# Altium footprint library PCB_Library.PcbLib: 36 footprints (part 1 of 3)
Each footprint in its own frame and in the unit in brackets; x right, y up, seen from the top. Pads: shape width x height; smd on the part's side, far side on the other; paste and mask are expansions set on the pad; w line width, h text height; cw(c..) or ccw(c..) is an arc to the next point about the centre after c.
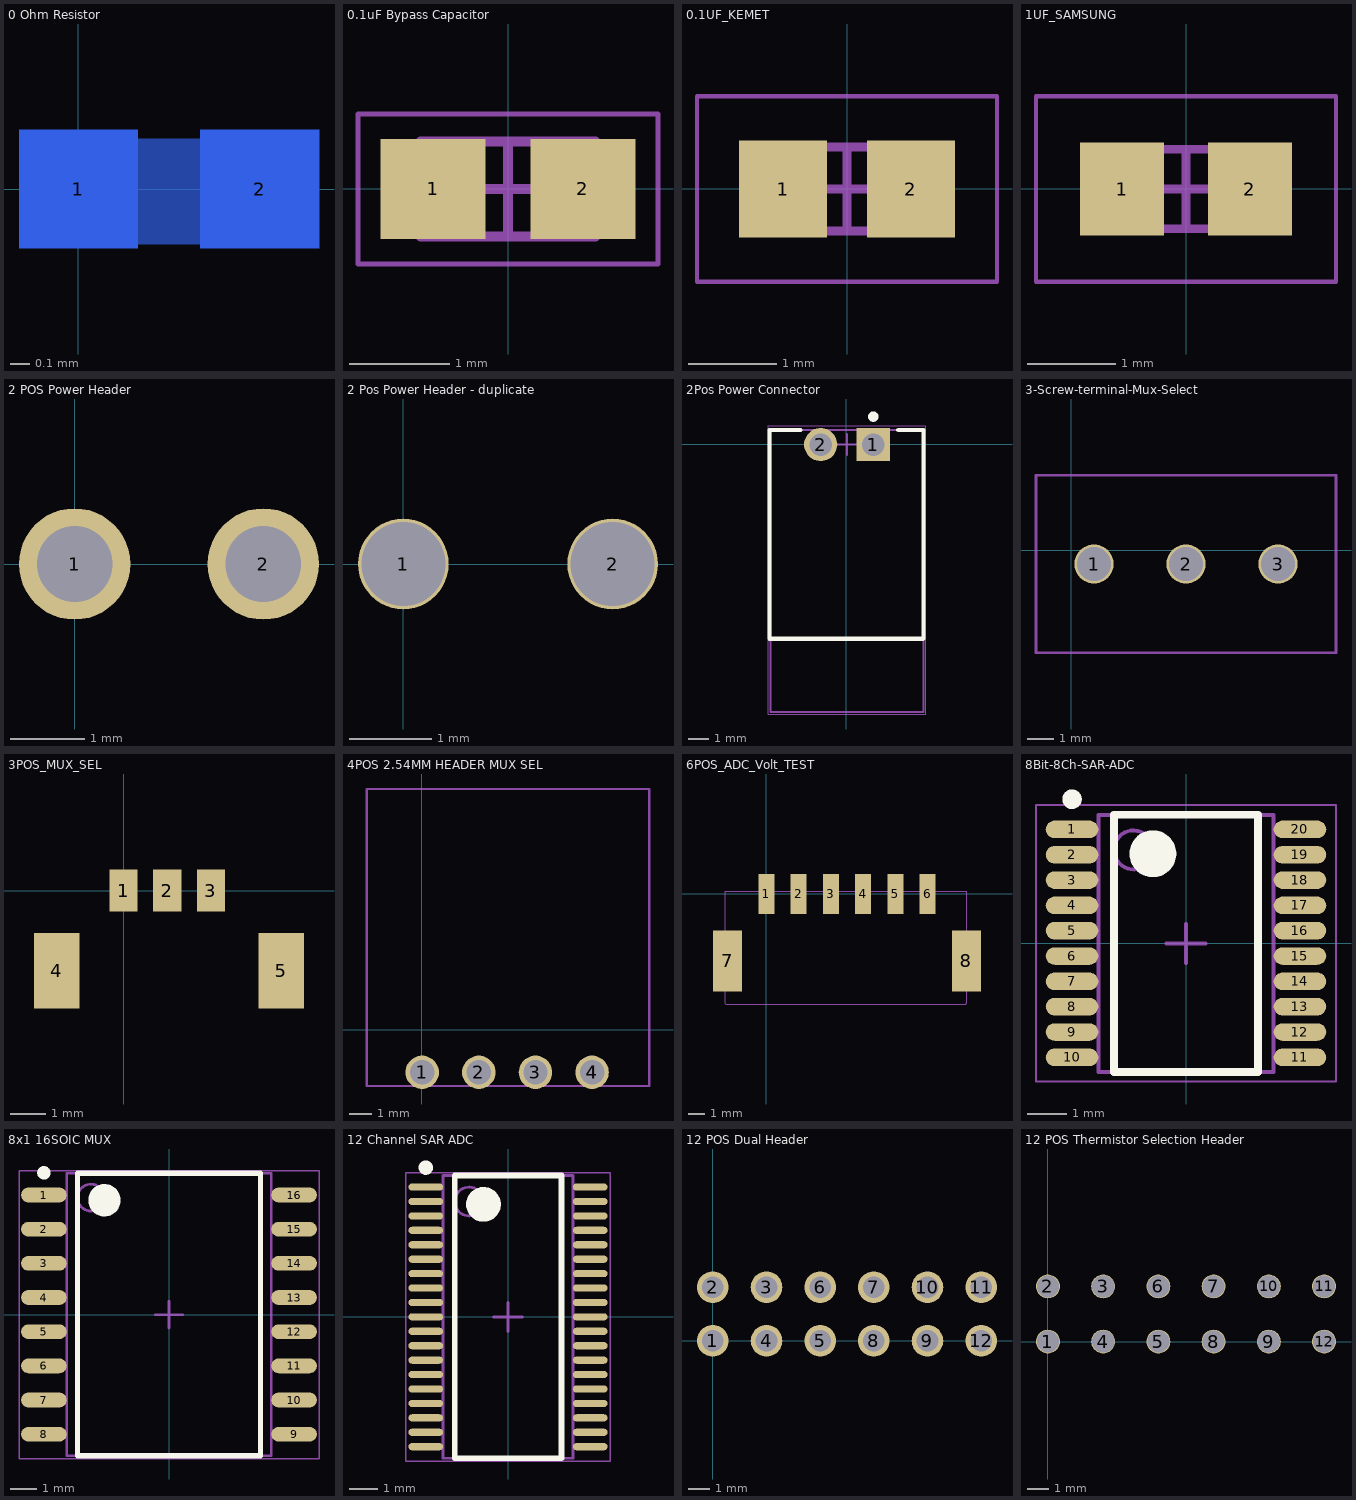
[diagram p0: the footprints below, top view; thin cyan lines are the x and y axes]

## 0 Ohm Resistor [mm]
pads (2):
  rect 0.6x0.6 smd far side: 1(0,0) 2(0.914,0)
Bottom Layer:
  rectangle: 0.254,-0.279 0.66,0.254

## 0.1uF Bypass Capacitor [mm] "Chip Capacitor, 2-Leads, Body 1.60x0.80mm, IPC Medium Density"
height 0.9
pads (2):
  rect 1.05x1 smd: 1(-0.75,0) 2(0.75,0)
Mechanical 13:
  lines w0.1: -0.875,-0.475 -0.875,0.475 0.875,0.475 0.875,-0.475 -0.875,-0.475
Mechanical 15:
  lines w0.05: -1.5,-0.75 -1.5,0.75 1.5,0.75 1.5,-0.75 -1.5,-0.75
  lines w0.1: -0.475,0 0.475,0 ; 0,-0.475 0,0.475
3D body "0.1uF Bypass Capacitor.step": height 0.9, standoff 0, extent -0.875,-0.475 0.875,0.475

## 0.1UF_KEMET [mm]
pads (2):
  rect 1x1.1 smd: 1(-0.725,0) 2(0.725,0)
Mechanical 13:
  lines w0.1: -0.875,-0.475 0.875,-0.475 0.875,0.475 -0.875,0.475 -0.875,-0.475
Mechanical 15:
  lines w0.05: -1.7,-1.05 1.7,-1.05 1.7,1.05 -1.7,1.05 -1.7,-1.05
  lines w0.1: -0.475,0 0.475,0 ; 0,-0.475 0,0.475
3D body "CAPC1608X09M.step": height 0.92, standoff 0, extent -0.875,-0.475 0.875,0.475

## 1UF_SAMSUNG [mm]
pads (2):
  rect 0.95x1.05 smd: 1(-0.725,0) 2(0.725,0)
Mechanical 13:
  lines w0.1: -0.85,-0.45 -0.85,0.45 0.85,0.45 0.85,-0.45 -0.85,-0.45
Mechanical 15:
  lines w0.05: -1.7,-1.05 -1.7,1.05 1.7,1.05 1.7,-1.05 -1.7,-1.05
  lines w0.1: -0.45,0 0.45,0 ; 0,-0.45 0,0.45
3D body "CAPC1608X09M.step": height 0.9, standoff 0, extent -0.85,-0.45 0.85,0.45

## 2 POS Power Header [mm] "Connecting Power between boards"
pads (2):
  round 1.5 hole 1.02: 1(0,0) 2(2.54,0)
3D body "929715-06-01.STEP": height 10.04, standoff -17.99, extent -1.536,-1.295 3.924,1.245

## 2 Pos Power Header - duplicate [mm] "Without 3D body,"
pads (2):
  round 1.1 hole 1.02: 1(0,0) 2(2.54,0)

## 2Pos Power Connector [mm]
pads (2):
  rect 1.6x1.6 hole 1.09: 1(1.295,-0.025)
  round 1.6 hole 1.09: 2(-1.245,-0.025)
Top Overlay:
  circle w0.25: c1.295,1.325 r0.125
  lines w0.2: -2.22,0.675 -3.708,0.675 -3.708,-9.385 3.696,-9.385 3.71,-9.371 3.71,0.675 2.495,0.675
Mechanical 13:
  lines w0.1: -3.66,-12.915 3.71,-12.915 3.71,0.675 -3.66,0.675 -3.66,-12.915
Mechanical 15:
  lines w0.05: -3.76,-13.015 -3.76,0.875 3.81,0.875 3.81,-13.015 -3.76,-13.015
  lines w0.1: -0.475,-0.025 0.525,-0.025 ; 0.025,-0.525 0.025,0.475
3D body "705530001.stp": height 6.98, standoff -3.3, extent -3.658,-12.914 3.708,0.675

## 3-Screw-terminal-Mux-Select [mm]
pads (3):
  round 1.5 hole 1.3: 1(0.864,-0.533) 2(4.369,-0.533) 3(7.874,-0.533)
Mechanical 1:
  lines w0.1: -1.346,-3.912 9.449,-3.912 10.084,-3.912 10.084,-0.533 10.084,2.845 8.915,2.845 -1.346,2.845 -1.346,0.483 -1.346,-0.711 -1.346,-3.912
3D body "691103110003 (rev1).stp": height 8.5, standoff -3.7, extent -1.432,-4.084 10.068,2.916

## 3POS_MUX_SEL [mm] "CONN HEADER SMD R/A 3POS 1.25MM"
pads (5):
  rect 0.8x1.2 smd: 1(0,0) 2(1.245,0) 3(2.489,0)
  rect 1.3x2.15 smd: 4(-1.905,-2.286) 5(4.496,-2.286)
3D body "5055670371.stp": height 3.91, standoff 0.01, extent -2.281,-3.835 4.719,0.365

## 4POS 2.54MM HEADER MUX SEL [mm]
pads (5):
  round 1.5 hole 1.09: 1(0.025,-1.905) 2(2.565,-1.905) 3(5.105,-1.905) 4(7.645,-1.905) 4(7.645,-1.905)
Mechanical 1:
  lines w0.1: -2.464,-2.515 -2.464,-1.905 -2.464,10.795 10.211,10.795 10.211,-1.905 10.211,-2.515 -2.464,-2.515
3D body "705530108.stp": height 7.06, standoff -3.22, extent -2.515,-2.642 10.185,10.947

## 6POS_ADC_Volt_TEST [mm] "CONN HEADER SMD R/A 6POS 2MM"
pads (8):
  rect 1x2.5 smd: 1(0,0) 2(2.007,0) 3(4.013,0) 4(6.02,0) 5(8.026,0) 6(10.033,0)
  rect 1.8x3.8 smd: 7(-2.413,-4.166) 8(12.446,-4.166)
Mechanical 1:
  lines w0.012: -2.565,-6.807 -2.565,0.152 -2.489,0.152 12.471,0.152 12.471,-6.782 12.395,-6.858 -2.515,-6.858 -2.565,-6.807

## 8Bit-8Ch-SAR-ADC [mm]
height 1.25
pads (20):
  oval 1.35x0.45 smd: 1(-2.925,2.925) 2(-2.925,2.275) 3(-2.925,1.625) 4(-2.925,0.975) 5(-2.925,0.325) 6(-2.925,-0.325) 7(-2.925,-0.975) 8(-2.925,-1.625) 9(-2.925,-2.275) 10(-2.925,-2.925) 11(2.925,-2.925) 12(2.925,-2.275) 13(2.925,-1.625) 14(2.925,-0.975) 15(2.925,-0.325) 16(2.925,0.325) 17(2.925,0.975) 18(2.925,1.625) 19(2.925,2.275) 20(2.925,2.925)
Top Overlay:
  circle w0.6: c-0.85,2.3 r0.3
  circle w0.25: c-2.925,3.7 r0.125
  lines w0.2: -1.85,-3.3 1.85,-3.3 1.85,3.3 -1.85,3.3 -1.85,-3.3
Mechanical 13:
  circle w0.1: c-1.35,2.4 r0.5
  lines w0.1: -2.25,-3.3 2.25,-3.3 2.25,3.3 -2.25,3.3 -2.25,-3.3
Mechanical 15:
  lines w0.05: -3.85,-3.55 3.85,-3.55 3.85,3.55 -3.85,3.55 -3.85,-3.55
  lines w0.1: -0.5,0 0.5,0 ; 0,-0.5 0,0.5
3D body "8Bit-8Ch-SAR-ADC.step": height 1.25, standoff 0, extent -3.2,-3.3 3.2,3.3

## 8x1 16SOIC MUX [mm] "IC MUX/DEMUX 8X1 16SOIC"
height 2.65
pads (16):
  oval 1.7x0.55 smd: 1(-4.65,4.445) 2(-4.65,3.175) 3(-4.65,1.905) 4(-4.65,0.635) 5(-4.65,-0.635) 6(-4.65,-1.905) 7(-4.65,-3.175) 8(-4.65,-4.445) 9(4.65,-4.445) 10(4.65,-3.175) 11(4.65,-1.905) 12(4.65,-0.635) 13(4.65,0.635) 14(4.65,1.905) 15(4.65,3.175) 16(4.65,4.445)
Top Overlay:
  circle w0.25: c-4.65,5.27 r0.125
  circle w0.6: c-2.4,4.25 r0.3
  lines w0.2: -3.4,-5.25 -3.4,5.25 3.4,5.25 3.4,-5.25 -3.4,-5.25
Mechanical 13:
  circle w0.1: c-2.9,4.35 r0.5
  lines w0.1: -3.8,-5.25 -3.8,5.25 3.8,5.25 3.8,-5.25 -3.8,-5.25
Mechanical 15:
  lines w0.05: -5.575,-5.35 -5.575,5.35 5.575,5.35 5.575,-5.35 -5.575,-5.35
  lines w0.1: -0.5,0 0.5,0 ; 0,-0.5 0,0.5
3D body "8x1 16SOIC MUX .step": height 2.65, standoff 0, extent -5.15,-5.25 5.15,5.25

## 12 Channel SAR ADC [mm] "TSSOP, 38-Leads, Body 9.70x4.40mm, Pitch 0.50mm, IPC High Density"
height 1.2
pads (38):
  oval 1.2x0.25 smd: 1(-2.85,4.5) 2(-2.85,4) 3(-2.85,3.5) 4(-2.85,3) 5(-2.85,2.5) 6(-2.85,2) 7(-2.85,1.5) 8(-2.85,1) 9(-2.85,0.5) 10(-2.85,0) 11(-2.85,-0.5) 12(-2.85,-1) 13(-2.85,-1.5) 14(-2.85,-2) 15(-2.85,-2.5) 16(-2.85,-3) 17(-2.85,-3.5) 18(-2.85,-4) 19(-2.85,-4.5) 20(2.85,-4.5) 21(2.85,-4) 22(2.85,-3.5) 23(2.85,-3) 24(2.85,-2.5) 25(2.85,-2) 26(2.85,-1.5) 27(2.85,-1) 28(2.85,-0.5) 29(2.85,0) 30(2.85,0.5) 31(2.85,1) 32(2.85,1.5) 33(2.85,2) 34(2.85,2.5) 35(2.85,3) 36(2.85,3.5) 37(2.85,4) 38(2.85,4.5)
Top Overlay:
  circle w0.25: c-2.85,5.175 r0.125
  circle w0.6: c-0.85,3.9 r0.3
  lines w0.2: -1.85,-4.9 -1.85,4.9 1.85,4.9 1.85,-4.9 -1.85,-4.9
Mechanical 13:
  circle w0.1: c-1.35,4 r0.5
  lines w0.1: -2.25,-4.9 -2.25,4.9 2.25,4.9 2.25,-4.9 -2.25,-4.9
Mechanical 15:
  lines w0.05: -3.55,-5 -3.55,5 3.55,5 3.55,-5 -3.55,-5
  lines w0.1: -0.5,0 0.5,0 ; 0,-0.5 0,0.5
3D body "12 Channel SAR ADC.step": height 1.2, standoff 0, extent -3.2,-4.9 3.2,4.9

## 12 POS Dual Header [mm] "Board to Board ADC Channel Header"
pads (12):
  round 1.5 hole 1.02: 1(0,0) 2(0,2.54) 3(2.54,2.54) 4(2.54,0) 5(5.08,0) 6(5.08,2.54) 7(7.62,2.54) 8(7.62,0) 9(10.16,0) 10(10.16,2.54) 11(12.7,2.54) 12(12.7,0)
3D body "929715-06-06.STEP": height 20.29, standoff -7.74, extent -1.245,-1.358 13.995,4.102

## 12 POS Thermistor Selection Header [mm] "Jumpers are placed here to select which pin on ADC header"
pads (12):
  round 1.1 hole 1.02: 1(0,0) 2(0,2.54) 3(2.54,2.54) 4(2.54,0) 5(5.08,0) 6(5.08,2.54) 7(7.62,2.54) 8(7.62,0) 9(10.16,0) 10(10.16,2.54) 11(12.7,2.54) 12(12.7,0)
3D body "67996-212HLF.step": height 8.89, standoff -5.08, extent -1.27,-1.321 13.97,3.759